# Altium footprint library Main.PcbLib: 60 footprints (part 1 of 4)
Each footprint in its own frame and in the unit in brackets; x right, y up, seen from the top. Pads: shape width x height; smd on the part's side, far side on the other; paste and mask are expansions set on the pad; w line width, h text height; cw(c..) or ccw(c..) is an arc to the next point about the centre after c.
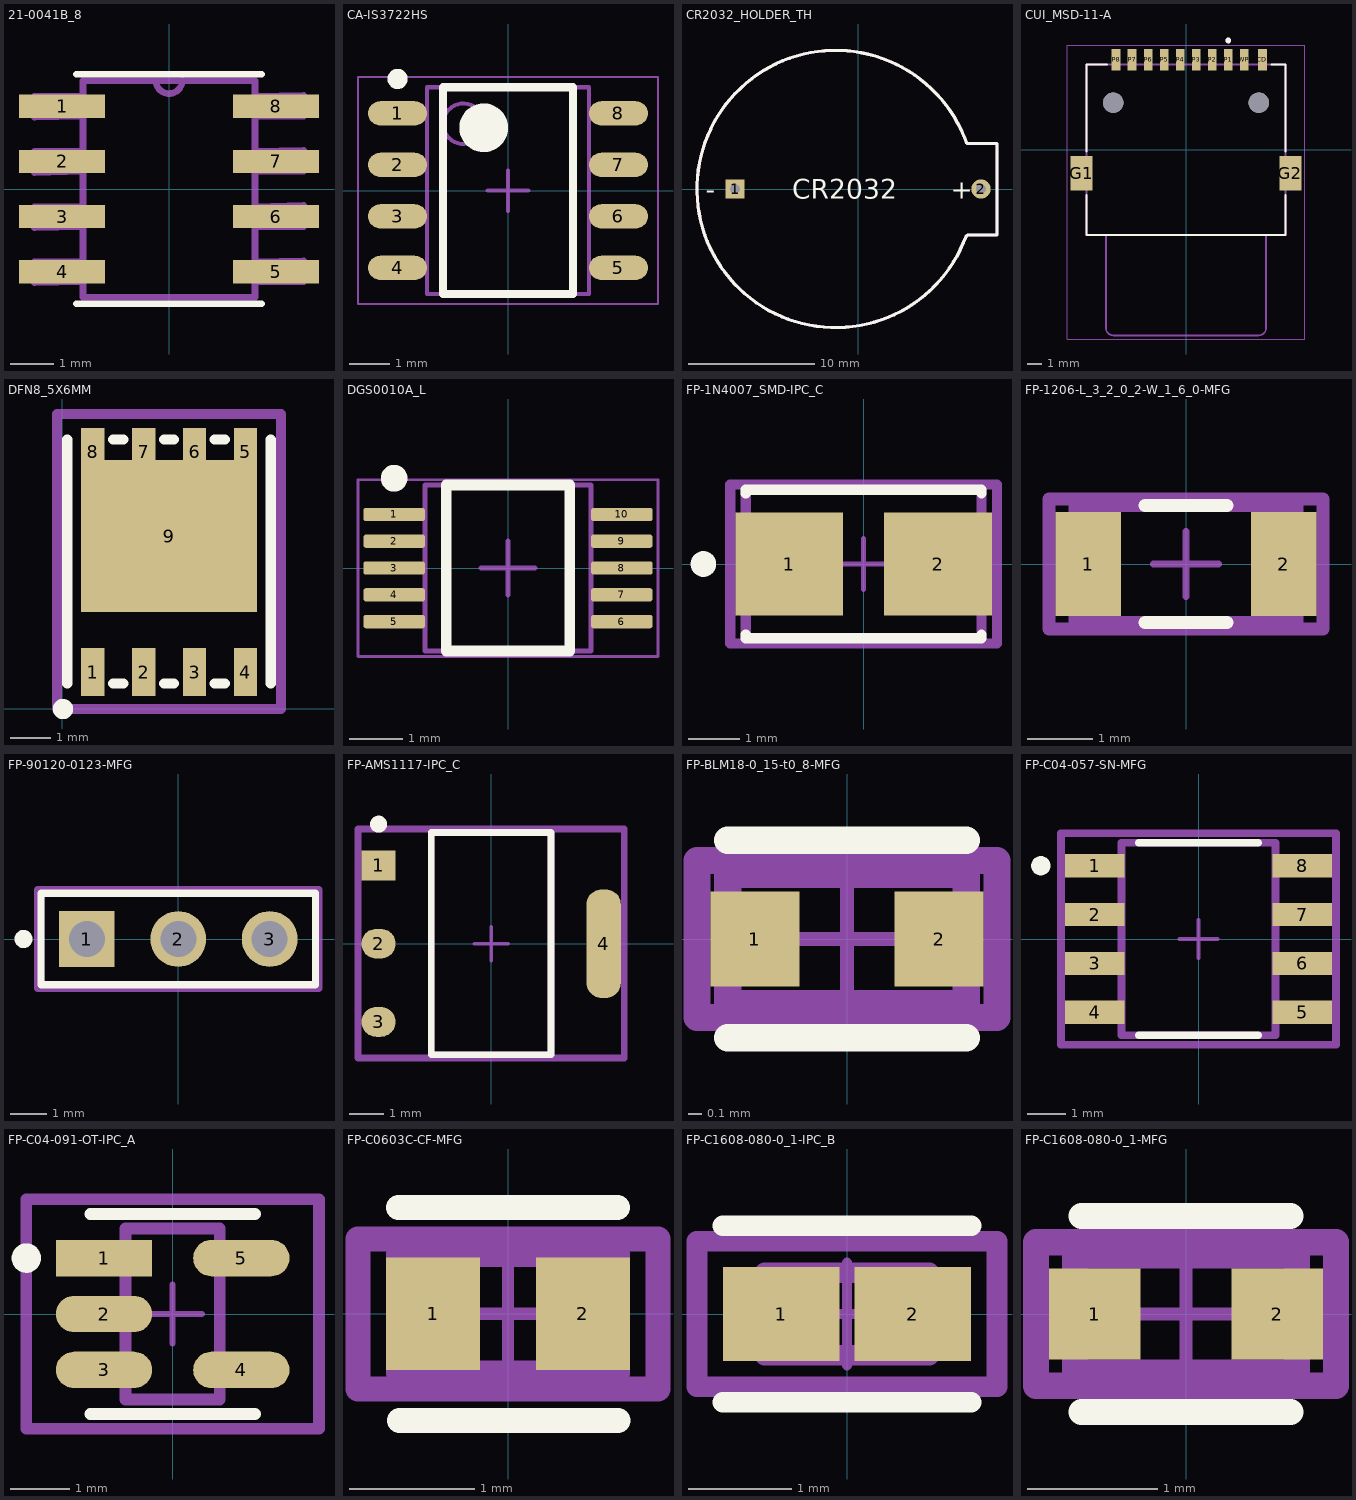
[diagram p0: the footprints below, top view; thin cyan lines are the x and y axes]

## 21-0041B_8 [mil]
pads (8):
  rect 78x21 smd: 1(-97,75) 2(-97,25) 3(-97,-25) 4(-97,-75) 5(97,-75) 6(97,-25) 7(97,25) 8(97,75)
Top Overlay:
  lines w6: -84,-104 84,-104 ; -84,104 84,104
Top 3D Body:
  lines w6: -12,98.08 ccw(c0,98.5) 12,98.92 ; -122,-85 -78,-84 -78,-66 -122,-66 -122,-85 ; -122,-35 -122,-16 -78,-16 -78,-34 -122,-35 ; -122,15 -122,34 -78,34 -78,16 -122,15 ; -122,65 -78,66 -78,84 -122,84 -122,65 ; -78,-98 78,-98 78,98 -12,98 -78,98 -78,-98 ; 78,-84 122,-84 122,-65 78,-66 78,-84 ; 78,-34 122,-34 122,-15 78,-16 78,-34 ; 78,16 78,34 122,35 122,16 78,16 ; 78,66 122,66 122,85 78,84 78,66
3D body "step_temp.STEP": height 68.9, standoff 0, extent -118.11,-96.46 118.11,96.46

## CA-IS3722HS [mm] "Dual Channel Standard Digital Isolators"
height 1.8
pads (8):
  oval 1.45x0.6 smd: 1(-2.725,1.905) 2(-2.725,0.635) 3(-2.725,-0.635) 4(-2.725,-1.905) 5(2.725,-1.905) 6(2.725,-0.635) 7(2.725,0.635) 8(2.725,1.905)
Top Overlay:
  circle w0.25: c-2.725,2.755 r0.125
  circle w0.6: c-0.6,1.55 r0.3
  lines w0.2: -1.6,-2.55 -1.6,2.55 1.6,2.55 1.6,-2.55 -1.6,-2.55
Top 3D Body:
  circle w0.1: c-1.1,1.65 r0.5
  lines w0.1: -2,-2.55 -2,2.55 2,2.55 2,-2.55 -2,-2.55
Top Courtyard:
  lines w0.05: -3.7,-2.8 -3.7,2.8 3.7,2.8 3.7,-2.8 -3.7,-2.8
  lines w0.1: -0.5,0 0.5,0 ; 0,-0.5 0,0.5
3D body "CA-IS3722HS.step": height 1.8, standoff 0, extent -3,-2.55 3,2.55

## CR2032_HOLDER_TH [mil]
pads (2):
  rect 60x60 hole 32: 1(-384,0)
  round 60 hole 32: 2(384,0)
Top Overlay:
  lines w10: 434,-2 434,-144 341.5,-144 336.71,-148.8 cw(c-70,0) 338.29,144.4 340.69,142 434,142 434,0
  text "CR2032" at -205,-30 h60
  text "-" at -475,-29.99 h60
  text "+" at 290,-30 h60
Mechanical 1:
  lines w10: 434,-2 434,-144 341.5,-144 336.71,-148.8 cw(c-70,0) 338.29,144.4 340.69,142 434,142 434,0

## CUI_MSD-11-A [mm]
height 2.05
pads (14):
  rect 0.6x1.5 smd: CD(5.25,6.18) P1(2.9,6.18) P2(1.8,6.18) P3(0.7,6.18) P4(-0.4,6.18) P5(-1.5,6.18) P6(-2.6,6.18) P7(-3.7,6.18) P8(-4.8,6.18) WP(4,6.18)
  rect 1.5x2.34 smd: G1(-7.17,-1.62) G2(7.17,-1.62)
  round 1.4 hole 1.4 unplated: ""(-5,3.23) ""(5,3.23)
Top Overlay:
  circle w0.2: c2.9,7.5 r0.1
  lines w0.127: -6.84,-3.11 -6.84,-5.85 6.84,-5.85 6.84,-3.11 ; -6.84,-0.12 -6.84,5.85 -5.42,5.85 ; 5.87,5.85 6.84,5.85 6.84,-0.12
Top 3D Body:
  circle w0.2: c2.9,7.5 r0.1
  lines w0.127: -5.5,-5.85 5.5,-5.85 ; -5.5,-5.85 -6.84,-5.85 -6.84,5.85 6.84,5.85 6.84,-5.85 5.5,-5.85 ; -5.5,-5.85 -5.5,-12.25 ccw(c-5,-12.25) -5,-12.75 5,-12.75 ccw(c5,-12.25) 5.5,-12.25 5.5,-5.85
Top Courtyard:
  lines w0.05: -8.17,-13 8.17,-13 8.17,7.18 -8.17,7.18 -8.17,-13
3D body "step_temp.STEP": height 1.8, standoff -0.55, extent -7.39,-6.3 7.39,6.3

## DFN8_5X6MM [mm]
pads (9):
  rect 0.58x1.2 smd: 1(0.764,0.922) 2(2.034,0.922) 3(3.304,0.922) 4(4.574,0.922) 5(4.574,6.422) 6(3.304,6.422) 7(2.034,6.422) 8(0.764,6.422)
  rect 4.4x3.8 smd: 9(2.667,4.318)
Top Overlay:
  lines w0.254: -0.105,-0.004 ccw(c0.02,-0.002) -0.105,-0.001 ; 0.127,0.635 0.127,6.731 ; 1.27,0.635 1.524,0.635 ; 1.27,6.731 1.524,6.731 ; 2.54,0.635 2.794,0.635 ; 2.54,6.731 2.794,6.731 ; 3.81,0.635 4.064,0.635 ; 3.81,6.731 4.064,6.731 ; 5.207,0.635 5.207,6.731
Mechanical 1:
  lines w0.254: -0.127,0 -0.127,7.366 5.461,7.366 5.461,0 -0.127,0

## DGS0010A_L [mm] "SOP, 10-Leads, Body 3.1x3.1mm, Pitch 0.5mm, IPC High Density"
height 1.1
pads (10):
  rrect40% 1.15x0.25 smd: 1(-2.125,1) 2(-2.125,0.5) 3(-2.125,0) 4(-2.125,-0.5) 5(-2.125,-1) 6(2.125,-1) 7(2.125,-0.5) 8(2.125,0) 9(2.125,0.5) 10(2.125,1)
Top Overlay:
  circle w0.25: c-2.125,1.675 r0.125
  lines w0.2: -1.15,-1.55 -1.15,1.55 1.15,1.55 1.15,-1.55 -1.15,-1.55
Mechanical 1:
  text ".Designator" at -1.397,-0.381 h0.7
Top 3D Body:
  lines w0.1: -1.55,-1.55 -1.55,1.55 1.55,1.55 1.55,-1.55 -1.55,-1.55
Top Courtyard:
  lines w0.05: -2.8,-1.65 -2.8,1.65 2.8,1.65 2.8,-1.65 -2.8,-1.65
  lines w0.1: -0.5,0 0.5,0 ; 0,-0.5 0,0.5
3D body "DGS0010AakaMUB10A.stp": height 0.94, standoff -0.02, extent -2.451,-1.499 2.451,1.499

## FP-1N4007_SMD-IPC_C [mm]
pads (2):
  rect 2.1x2 smd paste+0 mask+0: 1(-1.45,0) 2(1.45,0)
Top Overlay:
  circle w0.25: c-3.125,0 r0.125
  lines w0.2: -2.3,-1.375 -2.3,-1.45 2.3,-1.45 2.3,-1.375 ; -2.3,1.375 -2.3,1.45 2.3,1.45 2.3,1.375
Top Assembly:
  lines w0.2: -2.6,-1.55 -2.6,1.55 2.6,1.55 2.6,-1.55 -2.6,-1.55
Top 3D Body:
  lines w0.2: -2.3,-1.45 -2.3,1.45 2.3,1.45 2.3,-1.45 -2.3,-1.45
Top Courtyard:
  lines w0.2: -2.6,-1.55 -2.6,1.55 2.6,1.55 2.6,-1.55 -2.6,-1.55
Top Component Center:
  lines w0.1: -0.5,0 0.5,0 ; 0,-0.5 0,0.5
3D body "Diode_Multicomp_1N4007_SMD_eec.STEP": height 0.25, standoff 0, extent -2.6,-1.55 2.6,1.55

## FP-1206-L_3_2_0_2-W_1_6_0-MFG [mm]
pads (2):
  rect 1x1.6 smd paste+0 mask+0: 1(-1.5,0) 2(1.5,0)
Top Overlay:
  lines w0.2: -0.625,-0.9 0.625,-0.9 ; -0.625,0.9 0.625,0.9
Top Assembly:
  lines w0.2: -2.1,-1 -2.1,1 2.1,1 2.1,-1 -2.1,-1
  text ".Designator" at 0,0.188 h1
Top 3D Body:
  lines w0.2: -1.7,-0.9 -1.7,0.9 1.7,0.9 1.7,-0.9 -1.7,-0.9
Top Courtyard:
  lines w0.2: -2.1,-1 -2.1,1 2.1,1 2.1,-1 -2.1,-1
Top Component Center:
  lines w0.1: -0.5,0 0.5,0 ; 0,-0.5 0,0.5
3D body "Cap_AVX_12065C104KAT2A_eec.STEP": height 0.25, standoff 0, extent -2.1,-1 2.1,1

## FP-90120-0123-MFG [mm]
pads (3):
  rect 1.55x1.55 hole 1 paste-2539.97 mask+0: 1(-2.54,0)
  round 1.55 hole 1 paste-2539.97 mask+0: 2(0,0) 3(2.54,0)
Top Overlay:
  circle w0.25: c-4.3,0 r0.125
  lines w0.2: -3.81,-1.27 3.81,-1.27 3.81,1.27 -3.81,1.27 -3.81,-1.27
Top Assembly:
  lines w0.2: -3.91,-1.37 -3.91,1.37 3.91,1.37 3.91,-1.37 -3.91,-1.37
  text ".Designator" at 0,-0.001 h1
Top 3D Body:
  lines w0.2: -3.81,-1.27 -3.81,1.27 3.81,1.27 3.81,-1.27 -3.81,-1.27
Top Courtyard:
  lines w0.2: -3.91,-1.37 -3.91,1.37 3.91,1.37 3.91,-1.37 -3.91,-1.37
Top Component Center:
  lines w0.1: -0.5,0 0.5,0 ; 0,-0.5 0,0.5
3D body "Conn_Molex_90120-0123_eec.STEP": height 0.25, standoff 0, extent -3.91,-1.37 3.91,1.37

## FP-AMS1117-IPC_C [mm]
pads (4):
  rect 1.004x0.872 smd paste+0 mask+0: 1(-3.295,2.29)
  rrect100% 1.004x0.872 smd paste+0 mask+0: 2(-3.295,0) 3(-3.295,-2.29)
  rrect87% 1.004x3.182 smd paste+0 mask+0: 4(3.295,0)
Top Overlay:
  circle w0.25: c-3.295,3.5 r0.125
  lines w0.2: -1.753,-3.253 -1.753,3.253 1.753,3.253 1.753,-3.253 -1.753,-3.253
Top Assembly:
  lines w0.2: -3.897,-3.353 3.897,-3.353 3.897,3.353 -3.897,3.353 -3.897,-3.353
  text ".Designator" at 0,0.188 h1
Top 3D Body:
  lines w0.2: -1.753,-3.253 1.753,-3.253 1.753,3.253 -1.753,3.253 -1.753,-3.253
Top Courtyard:
  lines w0.2: -3.897,-3.353 3.897,-3.353 3.897,3.353 -3.897,3.353 -3.897,-3.353
Top Component Center:
  lines w0.1: -0.5,0 0.5,0 ; 0,-0.5 0,0.5
3D body "IC_Advanced_Monolithic_Systems_AMS1117-3_3_eec.STEP": height 0.25, standoff 0, extent -3.897,-3.353 3.897,3.353

## FP-BLM18-0_15-t0_8-MFG [mm]
pads (2):
  rect 0.65x0.7 smd paste+0 mask+0: 1(-0.675,0) 2(0.675,0)
Top Overlay:
  lines w0.2: -0.875,-0.725 0.875,-0.725 ; -0.875,0.725 0.875,0.725
Top Assembly:
  lines w0.2: -1.1,-0.575 -1.1,0.575 1.1,0.575 1.1,-0.575 -1.1,-0.575
  text ".Designator" at -1.254,-0.416 h1
Top 3D Body:
  lines w0.2: -0.875,-0.475 -0.875,0.475 0.875,0.475 0.875,-0.475 -0.875,-0.475
Top Courtyard:
  lines w0.2: -1.1,-0.575 -1.1,0.575 1.1,0.575 1.1,-0.575 -1.1,-0.575
Top Component Center:
  lines w0.1: -0.5,0 0.5,0 ; 0,-0.5 0,0.5
3D body "FBead_Murata_BLM18EG221SN1D_eec.STEP": height 0.25, standoff 0, extent -1.1,-0.575 1.1,0.575

## FP-C04-057-SN-MFG [mm]
pads (8):
  rect 1.55x0.6 smd paste+0 mask+0: 1(-2.7,1.905) 2(-2.7,0.635) 3(-2.7,-0.635) 4(-2.7,-1.905) 5(2.7,-1.905) 6(2.7,-0.635) 7(2.7,0.635) 8(2.7,1.905)
Top Overlay:
  circle w0.25: c-4.1,1.905 r0.125
  lines w0.2: -1.55,-2.5 1.55,-2.5 ; -1.55,2.5 1.55,2.5
Top Assembly:
  lines w0.2: -3.575,-2.75 3.575,-2.75 3.575,2.75 -3.575,2.75 -3.575,-2.75
  text ".Designator" at 0,0.188 h1
Top 3D Body:
  lines w0.2: -2,-2.5 2,-2.5 2,2.5 -2,2.5 -2,-2.5
Top Courtyard:
  lines w0.2: -3.575,-2.75 3.575,-2.75 3.575,2.75 -3.575,2.75 -3.575,-2.75
Top Component Center:
  lines w0.1: -0.5,0 0.5,0 ; 0,-0.5 0,0.5
3D body "IC_Microchip_24LC1025T-I-SN_eec.STEP": height 0.25, standoff 0, extent -3.575,-2.75 3.575,2.75

## FP-C04-091-OT-IPC_A [mil]
pads (5):
  rect 64.5x24.33 smd paste+0 mask+0: 1(-45.91,37.4)
  rrect100% 64.5x24.33 smd paste+0 mask+0: 2(-45.91,0) 3(-45.91,-37.4) 4(45.91,-37.4) 5(45.91,37.4)
Top Overlay:
  circle w9.84: c-97.85,37.4 r4.92
  lines w7.87: -55.12,-66.93 55.12,-66.93 ; -55.12,66.93 55.12,66.93
Top Assembly:
  lines w7.87: -97.85,-76.77 97.85,-76.77 97.85,76.77 -97.85,76.77 -97.85,-76.77
Top 3D Body:
  lines w7.87: -31.5,-57.09 -31.5,57.09 31.5,57.09 31.5,-57.09 -31.5,-57.09
Top Courtyard:
  lines w7.87: -97.85,-76.77 97.85,-76.77 97.85,76.77 -97.85,76.77 -97.85,-76.77
Top Component Center:
  lines w3.94: -19.68,0 19.68,0 ; 0,-19.68 0,19.68

## FP-C0603C-CF-MFG [mm]
pads (2):
  rect 0.75x0.9 smd paste+0 mask+0: 1(-0.6,0) 2(0.6,0)
Top Overlay:
  lines w0.2: -0.875,0.85 0.875,0.85 ; -0.87,-0.853 0.88,-0.853
Top Assembly:
  lines w0.2: -1.2,-0.6 -1.2,0.6 1.2,0.6 1.2,-0.6 -1.2,-0.6
  text ".Designator" at 0,0.188 h1
Top 3D Body:
  lines w0.2: -0.875,-0.475 -0.875,0.475 0.875,0.475 0.875,-0.475 -0.875,-0.475
Top Courtyard:
  lines w0.2: -1.2,-0.6 -1.2,0.6 1.2,0.6 1.2,-0.6 -1.2,-0.6
Top Component Center:
  lines w0.1: -0.5,0 0.5,0 ; 0,-0.5 0,0.5
3D body "Cap_KEMET_C0603C272M5JACTU_eec.STEP": height 0.25, standoff 0, extent -1.2,-0.6 1.2,0.6

## FP-C1608-080-0_1-IPC_B [mm]
pads (2):
  rect 1.131x0.912 smd paste+0 mask+0: 1(-0.641,0) 2(0.641,0)
Top Overlay:
  lines w0.2: -1.206,-0.856 1.206,-0.856 ; -1.206,0.856 1.206,0.856
Top Assembly:
  lines w0.2: -1.456,-0.706 -1.456,0.706 1.456,0.706 1.456,-0.706 -1.456,-0.706
  text ".Designator" at 0,0.188 h1
Top 3D Body:
  lines w0.2: -0.8,-0.4 0.8,-0.4 0.8,0.4 -0.8,0.4 -0.8,-0.4
Top Courtyard:
  lines w0.2: -1.456,-0.706 -1.456,0.706 1.456,0.706 1.456,-0.706 -1.456,-0.706
Top Component Center:
  lines w0.1: -0.5,0 0.5,0 ; 0,-0.5 0,0.5
3D body "Cap_TDK_C1608X6S0G106K080AB_eec.STEP": height 0.25, standoff 0, extent -1.456,-0.706 1.456,0.706

## FP-C1608-080-0_1-MFG [mm]
pads (2):
  rect 0.7x0.7 smd paste+0 mask+0: 1(-0.7,0) 2(0.7,0)
Top Overlay:
  lines w0.2: -0.8,-0.75 0.8,-0.75 ; -0.8,0.75 0.8,0.75
Top Assembly:
  lines w0.2: -1.15,-0.55 1.15,-0.55 1.15,0.55 -1.15,0.55 -1.15,-0.55
  text ".Designator" at 0,0.188 h1
Top 3D Body:
  lines w0.2: -0.85,-0.45 -0.85,0.45 0.85,0.45 0.85,-0.45 -0.85,-0.45
Top Courtyard:
  lines w0.2: -1.15,-0.55 1.15,-0.55 1.15,0.55 -1.15,0.55 -1.15,-0.55
Top Component Center:
  lines w0.1: -0.5,0 0.5,0 ; 0,-0.5 0,0.5
3D body "Cap_TDK_C1608X6S0G106K080AB_eec.STEP": height 0.25, standoff 0, extent -1.15,-0.55 1.15,0.55